# Altium schematic symbol library SCH - POWER - MODULE - TLV741P.SCHLIB: 1 symbol
Pins are listed as number, name and electrical type; pins without a type are passive.

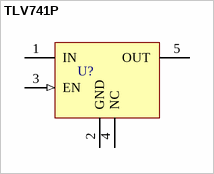
[diagram p0: symbol TLV741P]

## TLV741P
designator U?
150mA, 2.5V LDO
pins: 1 IN (power), 2 GND (power), 3 EN (in), 4 NC, 5 OUT (power)